# Altium schematic symbol library WE-FAMI.SchLib: 21 symbols
Pins are listed as number, name and electrical type; pins without a type are passive.

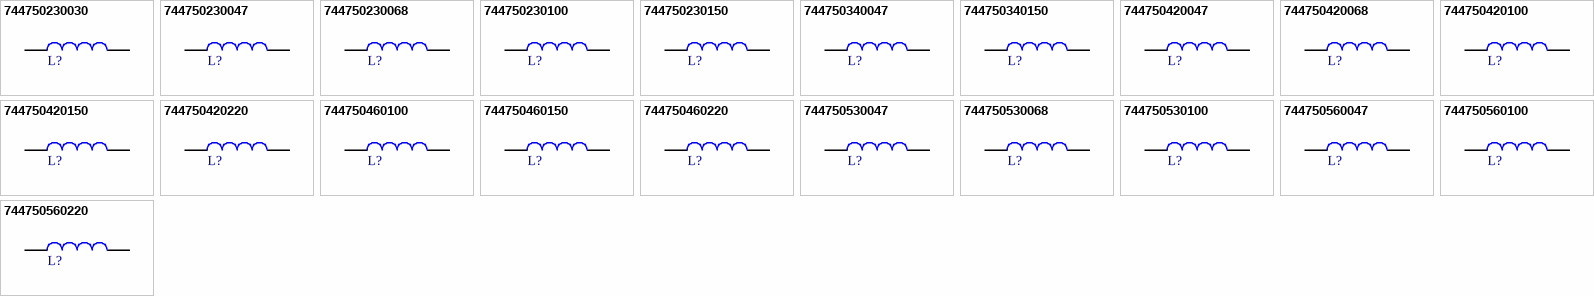
[diagram p0: symbols 744750230030 to 744750560220]

## 744750230030
designator L?, comment 3µH, 7.6A  (value not drawn)
WE-FAMI THT Power Inductor, size 8010, 3µH, 7.6A, 7mΩ; Manufacturer Part Number: 744750230030; Manufacturer: Wurth Elektronik; Case/Size Code: 8010; DC Resistance Max: 8.5mΩ; Saturation Current: 11.7A; Category: Shielded Power Inductors; Match Code: WE-FAMI; ComponentLink1Description: Website Link; ComponentLink1URL: https://www.we-online.com/redexpert/article/744750230030?ad; ComponentLink2Description: Datasheet Link; ComponentLink2URL: https://www.we-online.com/redexpert/spec/744750230030?ad; Mount: Through Hole; Operating Temperature Max: 125°C; Operating Temperature Min: -40°C; Packaging: Tray; Height: 11mm; Diameter: 8.8mm; DC Resistance: 7mΩ; Inductance: 3µH; Rated Current: 7.6A
footprint WE-FAMI_8010_Pin 0.65mm
simulation model 8010_744750230030_3u
pins: 1, 2

## 744750230047
designator L?, comment 4.7µH, 6.5A  (value not drawn)
WE-FAMI THT Power Inductor, size 8010, 4.7µH, 6.5A, 9.7mΩ; Manufacturer Part Number: 744750230047; Manufacturer: Wurth Elektronik; Case/Size Code: 8010; DC Resistance Max: 12.5mΩ; Saturation Current: 9.6A; Category: Shielded Power Inductors; Match Code: WE-FAMI; ComponentLink1Description: Website Link; ComponentLink1URL: https://www.we-online.com/redexpert/article/744750230047?ad; ComponentLink2Description: Datasheet Link; ComponentLink2URL: https://www.we-online.com/redexpert/spec/744750230047?ad; Mount: Through Hole; Operating Temperature Max: 125°C; Operating Temperature Min: -40°C; Packaging: Tray; Height: 11mm; Diameter: 8.8mm; DC Resistance: 9.7mΩ; Inductance: 4.7µH; Rated Current: 6.5A
footprint WE-FAMI_8010_Pin 0.65mm
simulation model 8010_744750230047_4.7u
pins: 1, 2

## 744750230068
designator L?, comment 6.8µH, 5.7A  (value not drawn)
WE-FAMI THT Power Inductor, size 8010, 6.8µH, 5.7A, 12.2mΩ; Manufacturer Part Number: 744750230068; Manufacturer: Wurth Elektronik; Case/Size Code: 8010; DC Resistance Max: 16mΩ; Saturation Current: 8.1A; Category: Shielded Power Inductors; Match Code: WE-FAMI; ComponentLink1Description: Website Link; ComponentLink1URL: https://www.we-online.com/redexpert/article/744750230068?ad; ComponentLink2Description: Datasheet Link; ComponentLink2URL: https://www.we-online.com/redexpert/spec/744750230068?ad; Mount: Through Hole; Operating Temperature Max: 125°C; Operating Temperature Min: -40°C; Packaging: Tray; Height: 11mm; Diameter: 8.8mm; DC Resistance: 12.2mΩ; Inductance: 6.8µH; Rated Current: 5.7A
footprint WE-FAMI_8010_Pin 0.65mm
simulation model 8010_744750230068_6.8u
pins: 1, 2

## 744750230100
designator L?, comment 10µH, 4.6A  (value not drawn)
WE-FAMI THT Power Inductor, size 8010, 10µH, 4.6A, 18.6mΩ; Manufacturer Part Number: 744750230100; Manufacturer: Wurth Elektronik; Case/Size Code: 8010; DC Resistance Max: 23mΩ; Saturation Current: 6.8A; Category: Shielded Power Inductors; Match Code: WE-FAMI; ComponentLink1Description: Website Link; ComponentLink1URL: https://www.we-online.com/redexpert/article/744750230100?ad; ComponentLink2Description: Datasheet Link; ComponentLink2URL: https://www.we-online.com/redexpert/spec/744750230100?ad; Mount: Through Hole; Operating Temperature Max: 125°C; Operating Temperature Min: -40°C; Packaging: Tray; Height: 11mm; Diameter: 8.8mm; DC Resistance: 18.6mΩ; Inductance: 10µH; Rated Current: 4.6A
footprint WE-FAMI_8010_Pin 0.55mm
simulation model 8010_744750230100_10u
pins: 1, 2

## 744750230150
designator L?, comment 15µH, 3.7A  (value not drawn)
WE-FAMI THT Power Inductor, size 8010, 15µH, 3.7A, 27.9mΩ; Manufacturer Part Number: 744750230150; Manufacturer: Wurth Elektronik; Case/Size Code: 8010; DC Resistance Max: 35mΩ; Saturation Current: 5.7A; Category: Shielded Power Inductors; Match Code: WE-FAMI; ComponentLink1Description: Website Link; ComponentLink1URL: https://www.we-online.com/redexpert/article/744750230150?ad; ComponentLink2Description: Datasheet Link; ComponentLink2URL: https://www.we-online.com/redexpert/spec/744750230150?ad; Mount: Through Hole; Operating Temperature Max: 125°C; Operating Temperature Min: -40°C; Packaging: Tray; Height: 11mm; Diameter: 8.8mm; DC Resistance: 27.9mΩ; Inductance: 15µH; Rated Current: 3.7A
footprint WE-FAMI_8010_Pin 0.5mm
simulation model 8010_744750230150_15u
pins: 1, 2

## 744750340047
designator L?, comment 4.7µH, 9A  (value not drawn)
WE-FAMI THT Power Inductor, size 1012, 4.7µH, 9A, 6.6mΩ; Manufacturer Part Number: 744750340047; Manufacturer: Wurth Elektronik; Case/Size Code: 1012; DC Resistance Max: 8.5mΩ; Saturation Current: 14.4A; Category: Shielded Power Inductors; Match Code: WE-FAMI; ComponentLink1Description: Website Link; ComponentLink1URL: https://www.we-online.com/redexpert/article/744750340047?ad; ComponentLink2Description: Datasheet Link; ComponentLink2URL: https://www.we-online.com/redexpert/spec/744750340047?ad; Mount: Through Hole; Operating Temperature Max: 125°C; Operating Temperature Min: -40°C; Packaging: Tray; Height: 13mm; Diameter: 10.8mm; DC Resistance: 6.6mΩ; Inductance: 4.7µH; Rated Current: 9A
footprint WE-FAMI_1012_Pin 0.8mm
simulation model 1012_744750340047_4.7u
pins: 1, 2

## 744750340150
designator L?, comment 15µH, 5.6A  (value not drawn)
WE-FAMI THT Power Inductor, size 1012, 15µH, 5.6A, 17.2mΩ; Manufacturer Part Number: 744750340150; Manufacturer: Wurth Elektronik; Case/Size Code: 1012; DC Resistance Max: 20mΩ; Saturation Current: 8.5A; Category: Shielded Power Inductors; Match Code: WE-FAMI; ComponentLink1Description: Website Link; ComponentLink1URL: https://www.we-online.com/redexpert/article/744750340150?ad; ComponentLink2Description: Datasheet Link; ComponentLink2URL: https://www.we-online.com/redexpert/spec/744750340150?ad; Mount: Through Hole; Operating Temperature Max: 125°C; Operating Temperature Min: -40°C; Packaging: Tray; Height: 13mm; Diameter: 10.8mm; DC Resistance: 17.2mΩ; Inductance: 15µH; Rated Current: 5.6A
footprint WE-FAMI_1012_Pin 0.7mm
simulation model 1012_744750340150_15u
pins: 1, 2

## 744750420047
designator L?, comment 4.7µH, 8.7A  (value not drawn)
WE-FAMI THT Power Inductor, size 1280, 4.7µH, 8.7A, 7mΩ; Manufacturer Part Number: 744750420047; Manufacturer: Wurth Elektronik; Case/Size Code: 1280; DC Resistance Max: 8.5mΩ; Saturation Current: 13.5A; Category: Shielded Power Inductors; Match Code: WE-FAMI; ComponentLink1Description: Website Link; ComponentLink1URL: https://www.we-online.com/redexpert/article/744750420047?ad; ComponentLink2Description: Datasheet Link; ComponentLink2URL: https://www.we-online.com/redexpert/spec/744750420047?ad; Mount: Through Hole; Operating Temperature Max: 125°C; Operating Temperature Min: -40°C; Packaging: Tray; Height: 9mm; Diameter: 12.8mm; DC Resistance: 7mΩ; Inductance: 4.7µH; Rated Current: 8.7A
footprint WE-FAMI_1280_Pin 0.8mm
simulation model 1280_744750420047_4.7u
pins: 1, 2

## 744750420068
designator L?, comment 6.8µH, 7.2A  (value not drawn)
WE-FAMI THT Power Inductor, size 1280, 6.8µH, 7.2A, 9.4mΩ; Manufacturer Part Number: 744750420068; Manufacturer: Wurth Elektronik; Case/Size Code: 1280; DC Resistance Max: 12mΩ; Saturation Current: 11.4A; Category: Shielded Power Inductors; Match Code: WE-FAMI; ComponentLink1Description: Website Link; ComponentLink1URL: https://www.we-online.com/redexpert/article/744750420068?ad; ComponentLink2Description: Datasheet Link; ComponentLink2URL: https://www.we-online.com/redexpert/spec/744750420068?ad; Mount: Through Hole; Operating Temperature Max: 125°C; Operating Temperature Min: -40°C; Packaging: Tray; Height: 9mm; Diameter: 12.8mm; DC Resistance: 9.4mΩ; Inductance: 6.8µH; Rated Current: 7.2A
footprint WE-FAMI_1280_Pin 0.7mm
simulation model 1280_744750420068_6.8u
pins: 1, 2

## 744750420100
designator L?, comment 10µH, 6.2A  (value not drawn)
WE-FAMI THT Power Inductor, size 1280, 10µH, 6.2A, 12.9mΩ; Manufacturer Part Number: 744750420100; Manufacturer: Wurth Elektronik; Case/Size Code: 1280; DC Resistance Max: 15.5mΩ; Saturation Current: 9.6A; Category: Shielded Power Inductors; Match Code: WE-FAMI; ComponentLink1Description: Website Link; ComponentLink1URL: https://www.we-online.com/redexpert/article/744750420100?ad; ComponentLink2Description: Datasheet Link; ComponentLink2URL: https://www.we-online.com/redexpert/spec/744750420100?ad; Mount: Through Hole; Operating Temperature Max: 125°C; Operating Temperature Min: -40°C; Packaging: Tray; Height: 9mm; Diameter: 12.8mm; DC Resistance: 12.9mΩ; Inductance: 10µH; Rated Current: 6.2A
footprint WE-FAMI_1280_Pin 0.65mm
simulation model 1280_744750420100_10u
pins: 1, 2

## 744750420150
designator L?, comment 15µH, 5.1A  (value not drawn)
WE-FAMI THT Power Inductor, size 1280, 15µH, 5.1A, 21.3mΩ; Manufacturer Part Number: 744750420150; Manufacturer: Wurth Elektronik; Case/Size Code: 1280; DC Resistance Max: 25mΩ; Saturation Current: 7.9A; Category: Shielded Power Inductors; Match Code: WE-FAMI; ComponentLink1Description: Website Link; ComponentLink1URL: https://www.we-online.com/redexpert/article/744750420150?ad; ComponentLink2Description: Datasheet Link; ComponentLink2URL: https://www.we-online.com/redexpert/spec/744750420150?ad; Mount: Through Hole; Operating Temperature Max: 125°C; Operating Temperature Min: -40°C; Packaging: Tray; Height: 9mm; Diameter: 12.8mm; DC Resistance: 21.3mΩ; Inductance: 15µH; Rated Current: 5.1A
footprint WE-FAMI_1280_Pin 0.6mm
simulation model 1280_744750420150_15u
pins: 1, 2

## 744750420220
designator L?, comment 22µH, 4.1A  (value not drawn)
WE-FAMI THT Power Inductor, size 1280, 22µH, 4.1A, 30.9mΩ; Manufacturer Part Number: 744750420220; Manufacturer: Wurth Elektronik; Case/Size Code: 1280; DC Resistance Max: 36mΩ; Saturation Current: 6.7A; Category: Shielded Power Inductors; Match Code: WE-FAMI; ComponentLink1Description: Website Link; ComponentLink1URL: https://www.we-online.com/redexpert/article/744750420220?ad; ComponentLink2Description: Datasheet Link; ComponentLink2URL: https://www.we-online.com/redexpert/spec/744750420220?ad; Mount: Through Hole; Operating Temperature Max: 125°C; Operating Temperature Min: -40°C; Packaging: Tray; Height: 9mm; Diameter: 12.8mm; DC Resistance: 30.9mΩ; Inductance: 22µH; Rated Current: 4.1A
footprint WE-FAMI_1280_Pin 0.55mm
simulation model 1280_744750420220_22u
pins: 1, 2

## 744750460100
designator L?, comment 10µH, 9.2A  (value not drawn)
WE-FAMI THT Power Inductor, size 1215, 10µH, 9.2A, 6.7mΩ; Manufacturer Part Number: 744750460100; Manufacturer: Wurth Elektronik; Case/Size Code: 1215; DC Resistance Max: 8.6mΩ; Saturation Current: 11.3A; Category: Shielded Power Inductors; Match Code: WE-FAMI; ComponentLink1Description: Website Link; ComponentLink1URL: https://www.we-online.com/redexpert/article/744750460100?ad; ComponentLink2Description: Datasheet Link; ComponentLink2URL: https://www.we-online.com/redexpert/spec/744750460100?ad; Mount: Through Hole; Operating Temperature Max: 125°C; Operating Temperature Min: -40°C; Packaging: Tray; Height: 15.8mm; Diameter: 12.8mm; DC Resistance: 6.7mΩ; Inductance: 10µH; Rated Current: 9.2A
footprint WE-FAMI_1215_Pin 1mm
simulation model 1215_744750460100_10u
pins: 1, 2

## 744750460150
designator L?, comment 15µH, 9A  (value not drawn)
WE-FAMI THT Power Inductor, size 1215, 15µH, 9A, 9.3mΩ; Manufacturer Part Number: 744750460150; Manufacturer: Wurth Elektronik; Case/Size Code: 1215; DC Resistance Max: 12mΩ; Saturation Current: 9.5A; Category: Shielded Power Inductors; Match Code: WE-FAMI; ComponentLink1Description: Website Link; ComponentLink1URL: https://www.we-online.com/redexpert/article/744750460150?ad; ComponentLink2Description: Datasheet Link; ComponentLink2URL: https://www.we-online.com/redexpert/spec/744750460150?ad; Mount: Through Hole; Operating Temperature Max: 125°C; Operating Temperature Min: -40°C; Packaging: Tray; Height: 15.8mm; Diameter: 12.8mm; DC Resistance: 9.3mΩ; Inductance: 15µH; Rated Current: 9A
footprint WE-FAMI_1215_Pin 1mm
simulation model 1215_744750460150_15u
pins: 1, 2

## 744750460220
designator L?, comment 22µH, 6.9A  (value not drawn)
WE-FAMI THT Power Inductor, size 1215, 22µH, 6.9A, 12.4mΩ; Manufacturer Part Number: 744750460220; Manufacturer: Wurth Elektronik; Case/Size Code: 1215; DC Resistance Max: 16mΩ; Saturation Current: 7.5A; Category: Shielded Power Inductors; Match Code: WE-FAMI; ComponentLink1Description: Website Link; ComponentLink1URL: https://www.we-online.com/redexpert/article/744750460220?ad; ComponentLink2Description: Datasheet Link; ComponentLink2URL: https://www.we-online.com/redexpert/spec/744750460220?ad; Mount: Through Hole; Operating Temperature Max: 125°C; Operating Temperature Min: -40°C; Packaging: Tray; Height: 15.8mm; Diameter: 12.8mm; DC Resistance: 12.4mΩ; Inductance: 22µH; Rated Current: 6.9A
footprint WE-FAMI_1215_Pin 0.9mm
simulation model 1215_744750460220_22u
pins: 1, 2

## 744750530047
designator L?, comment 4.7µH, 11.8A  (value not drawn)
WE-FAMI THT Power Inductor, size 1410, 4.7µH, 11.8A, 4.1mΩ; Manufacturer Part Number: 744750530047; Manufacturer: Wurth Elektronik; Case/Size Code: 1410; DC Resistance Max: 4.8mΩ; Saturation Current: 18A; Category: Shielded Power Inductors; Match Code: WE-FAMI; ComponentLink1Description: Website Link; ComponentLink1URL: https://www.we-online.com/redexpert/article/744750530047?ad; ComponentLink2Description: Datasheet Link; ComponentLink2URL: https://www.we-online.com/redexpert/spec/744750530047?ad; Mount: Through Hole; Operating Temperature Max: 125°C; Operating Temperature Min: -40°C; Packaging: Tray; Height: 11mm; Diameter: 14.8mm; DC Resistance: 4.1mΩ; Inductance: 4.7µH; Rated Current: 11.8A
footprint WE-FAMI_1410_Pin 1.1mm
simulation model 1410_744750530047_4.7u
pins: 1, 2

## 744750530068
designator L?, comment 6.8µH, 10.7A  (value not drawn)
WE-FAMI THT Power Inductor, size 1410, 6.8µH, 10.7A, 5.3mΩ; Manufacturer Part Number: 744750530068; Manufacturer: Wurth Elektronik; Case/Size Code: 1410; DC Resistance Max: 6.5mΩ; Saturation Current: 15A; Category: Shielded Power Inductors; Match Code: WE-FAMI; ComponentLink1Description: Website Link; ComponentLink1URL: https://www.we-online.com/redexpert/article/744750530068?ad; ComponentLink2Description: Datasheet Link; ComponentLink2URL: https://www.we-online.com/redexpert/spec/744750530068?ad; Mount: Through Hole; Operating Temperature Max: 125°C; Operating Temperature Min: -40°C; Packaging: Tray; Height: 11mm; Diameter: 14.8mm; DC Resistance: 5.3mΩ; Inductance: 6.8µH; Rated Current: 10.7A
footprint WE-FAMI_1410_Pin 1mm
simulation model 1410_744750530068_6.8u
pins: 1, 2

## 744750530100
designator L?, comment 10µH, 8.9A  (value not drawn)
WE-FAMI THT Power Inductor, size 1410, 10µH, 8.9A, 8mΩ; Manufacturer Part Number: 744750530100; Manufacturer: Wurth Elektronik; Case/Size Code: 1410; DC Resistance Max: 9.5mΩ; Saturation Current: 12.4A; Category: Shielded Power Inductors; Match Code: WE-FAMI; ComponentLink1Description: Website Link; ComponentLink1URL: https://www.we-online.com/redexpert/article/744750530100?ad; ComponentLink2Description: Datasheet Link; ComponentLink2URL: https://www.we-online.com/redexpert/spec/744750530100?ad; Mount: Through Hole; Operating Temperature Max: 125°C; Operating Temperature Min: -40°C; Packaging: Tray; Height: 11mm; Diameter: 14.8mm; DC Resistance: 8mΩ; Inductance: 10µH; Rated Current: 8.9A
footprint WE-FAMI_1410_Pin 0.9mm
simulation model 1410_744750530100_10u
pins: 1, 2

## 744750560047
designator L?, comment 4.7µH, 14.5A  (value not drawn)
WE-FAMI THT Power Inductor, size 1415, 4.7µH, 14.5A, 3.1mΩ; Manufacturer Part Number: 744750560047; Manufacturer: Wurth Elektronik; Case/Size Code: 1415; DC Resistance Max: 3.8mΩ; Saturation Current: 19.7A; Category: Shielded Power Inductors; Match Code: WE-FAMI; ComponentLink1Description: Website Link; ComponentLink1URL: https://www.we-online.com/redexpert/article/744750560047?ad; ComponentLink2Description: Datasheet Link; ComponentLink2URL: https://www.we-online.com/redexpert/spec/744750560047?ad; Mount: Through Hole; Operating Temperature Max: 125°C; Operating Temperature Min: -40°C; Packaging: Tray; Height: 15.8mm; Diameter: 14.8mm; DC Resistance: 3.1mΩ; Inductance: 4.7µH; Rated Current: 14.5A
footprint WE-FAMI_1415_Pin 1.2mm
simulation model 1415_744750560047_4.7u
pins: 1, 2

## 744750560100
designator L?, comment 10µH, 11.4A  (value not drawn)
WE-FAMI THT Power Inductor, size 1415, 10µH, 11.4A, 5.4mΩ; Manufacturer Part Number: 744750560100; Manufacturer: Wurth Elektronik; Case/Size Code: 1415; DC Resistance Max: 6.8mΩ; Saturation Current: 13.4A; Category: Shielded Power Inductors; Match Code: WE-FAMI; ComponentLink1Description: Website Link; ComponentLink1URL: https://www.we-online.com/redexpert/article/744750560100?ad; ComponentLink2Description: Datasheet Link; ComponentLink2URL: https://www.we-online.com/redexpert/spec/744750560100?ad; Mount: Through Hole; Operating Temperature Max: 125°C; Operating Temperature Min: -40°C; Packaging: Tray; Height: 15.8mm; Diameter: 14.8mm; DC Resistance: 5.4mΩ; Inductance: 10µH; Rated Current: 11.4A
footprint WE-FAMI_1415_Pin 1.2mm
simulation model 1415_744750560100_10u
pins: 1, 2

## 744750560220
designator L?, comment 22µH, 7.7A  (value not drawn)
WE-FAMI THT Power Inductor, size 1415, 22µH, 7.7A, 12.6mΩ; Manufacturer Part Number: 744750560220; Manufacturer: Wurth Elektronik; Case/Size Code: 1415; DC Resistance Max: 14.5mΩ; Saturation Current: 8.9A; Category: Shielded Power Inductors; Match Code: WE-FAMI; ComponentLink1Description: Website Link; ComponentLink1URL: https://www.we-online.com/redexpert/article/744750560220?ad; ComponentLink2Description: Datasheet Link; ComponentLink2URL: https://www.we-online.com/redexpert/spec/744750560220?ad; Mount: Through Hole; Operating Temperature Max: 125°C; Operating Temperature Min: -40°C; Packaging: Tray; Height: 15.8mm; Diameter: 14.8mm; DC Resistance: 12.6mΩ; Inductance: 22µH; Rated Current: 7.7A
footprint WE-FAMI_1415_Pin 0.9mm
simulation model 1415_744750560220_22u
pins: 1, 2